# Altium schematic symbol library SCH - DRIVER - LED - TI TLC5911_PZP_100_B.SchLib: 1 symbol
Pins are listed as number, name and electrical type; pins without a type are passive.

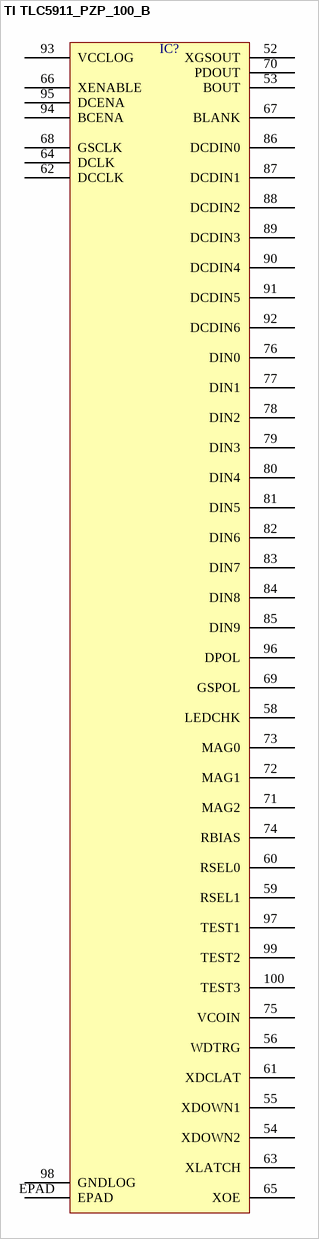
[diagram p0: symbol TI TLC5911_PZP_100_B]

## TI TLC5911_PZP_100_B
designator IC?  (value not drawn)
pins: 52 XGSOUT, 53 BOUT, 54 XDOWN2, 55 XDOWN1, 56 WDTRG, 58 LEDCHK, 59 RSEL1, 60 RSEL0, 61 XDCLAT, 62 DCCLK, 63 XLATCH, 64 DCLK, 65 XOE, 66 XENABLE, 67 BLANK, 68 GSCLK, 69 GSPOL, 70 PDOUT, 71 MAG2, 72 MAG1, 73 MAG0, 74 RBIAS, 75 VCOIN, 76 DIN0, 77 DIN1, 78 DIN2, 79 DIN3, 80 DIN4, 81 DIN5, 82 DIN6, 83 DIN7, 84 DIN8, 85 DIN9, 86 DCDIN0, 87 DCDIN1, 88 DCDIN2, 89 DCDIN3, 90 DCDIN4, 91 DCDIN5, 92 DCDIN6, 93 VCCLOG, 94 BCENA, 95 DCENA, 96 DPOL, 97 TEST1, 98 GNDLOG, 99 TEST2, 100 TEST3, EPAD